# Altium schematic symbol library si4455.SchLib: 5 symbols
Pins are listed as number, name and electrical type; pins without a type are passive.

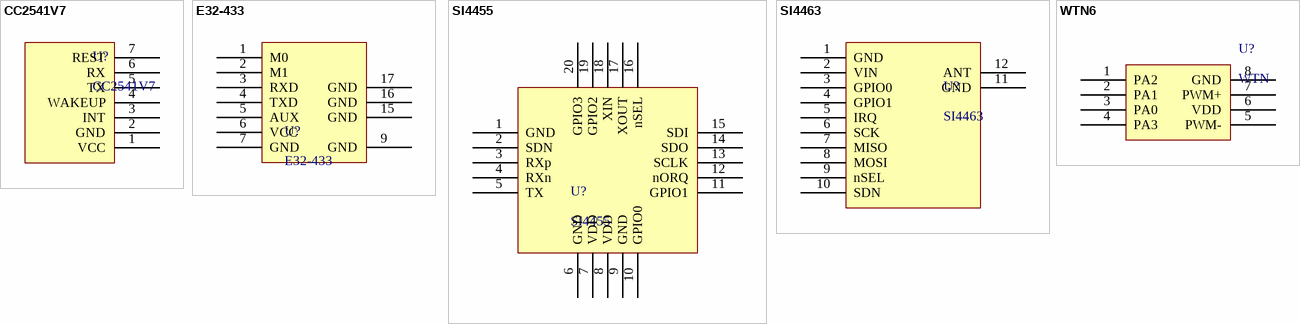
[diagram p0: symbols CC2541V7 to WTN6]

## CC2541V7
designator U?
pins: 1 VCC, 2 GND, 3 INT, 4 WAKEUP, 5 TX, 6 RX, 7 REST

## E32-433
designator U?
pins: 1 M0, 2 M1, 3 RXD, 4 TXD, 5 AUX, 6 VCC, 7 GND, 9 GND, 15 GND, 16 GND, 17 GND

## SI4455
designator U?
pins: 1 GND, 2 SDN, 3 RXp, 4 RXn, 5 TX, 6 GND, 7 VDD, 8 VDD, 9 GND, 10 GPIO0, 11 GPIO1, 12 nORQ, 13 SCLK, 14 SDO, 15 SDI, 16 nSEL, 17 XOUT, 18 XIN, 19 GPIO2, 20 GPIO3

## SI4463
designator U?
pins: 1 GND, 2 VIN, 3 GPIO0, 4 GPIO1, 5 IRQ, 6 SCK, 7 MISO, 8 MOSI, 9 nSEL, 10 SDN, 11 GND, 12 ANT

## WTN6
designator U?, comment WTN
pins: 1 PA2, 2 PA1, 3 PA0, 4 PA3, 5 PWM-, 6 VDD, 7 PWM+, 8 GND